# EAGLE library part MC6821 (library Synapseware-heritage)
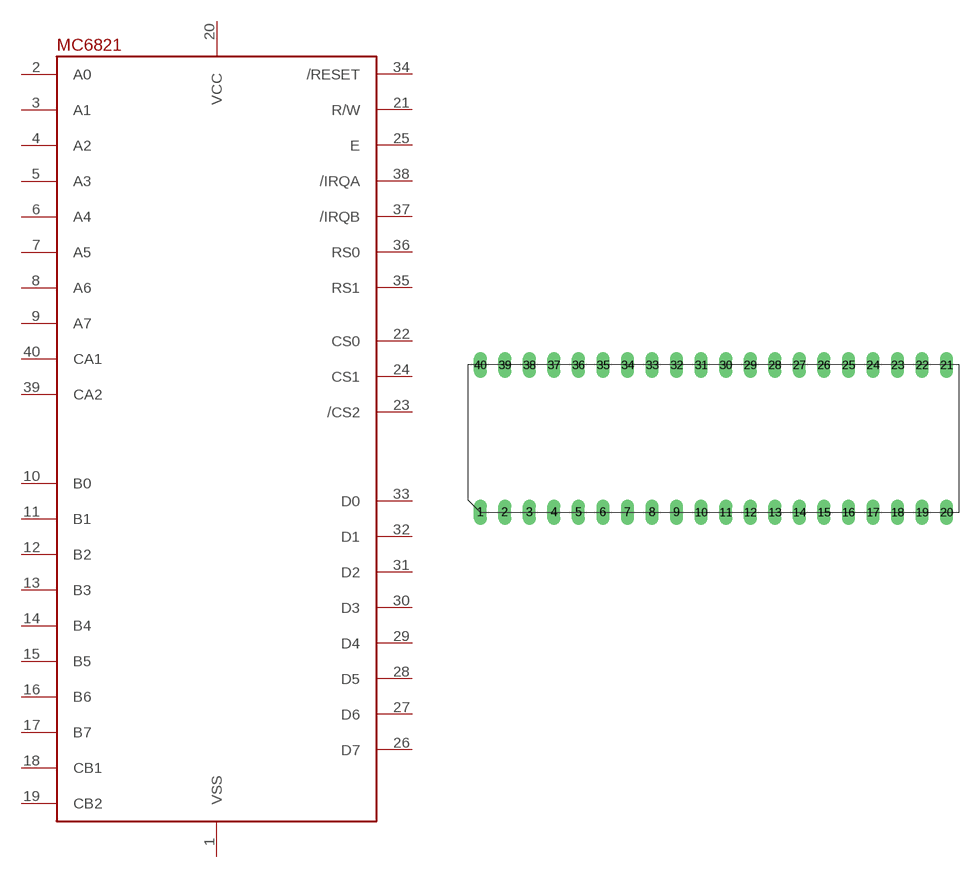
[diagram p4: symbol with the pads of DIL40; footprint DIL40]

Designator prefix -

## MC6821  [DIL40]
1  VSS
2  A0
3  A1
4  A2
5  A3
6  A4
7  A5
8  A6
9  A7
10  B0
11  B1
12  B2
13  B3
14  B4
15  B5
16  B6
17  B7
18  CB1
19  CB2
20  VCC
21  R/W
22  CS0
23  /CS2
24  CS1
25  E
26  D7
27  D6
28  D5
29  D4
30  D3
31  D2
32  D1
33  D0
34  /RESET
35  RS1
36  RS0
37  /IRQB
38  /IRQA
39  CA2
40  CA1

## Footprint DIL40 (pad centres in mm)
drill 0.813 long: 1 -22.86,-7.62; 2 -20.32,-7.62; 3 -17.78,-7.62; 4 -15.24,-7.62; 5 -12.7,-7.62; 6 -10.16,-7.62; 7 -7.62,-7.62; 8 -5.08,-7.62; 9 -2.54,-7.62; 10 0,-7.62; 11 2.54,-7.62; 12 5.08,-7.62; 13 7.62,-7.62; 14 10.16,-7.62; 15 12.7,-7.62; 16 15.24,-7.62; 17 17.78,-7.62; 18 20.32,-7.62; 19 22.86,-7.62; 20 25.4,-7.62; 21 25.4,7.62; 22 22.86,7.62; 23 20.32,7.62; 24 17.78,7.62; 25 15.24,7.62; 26 12.7,7.62; 27 10.16,7.62; 28 7.62,7.62; 29 5.08,7.62; 30 2.54,7.62; 31 0,7.62; 32 -2.54,7.62; 33 -5.08,7.62; 34 -7.62,7.62; 35 -10.16,7.62; 36 -12.7,7.62; 37 -15.24,7.62; 38 -17.78,7.62; 39 -20.32,7.62; 40 -22.86,7.62